# EAGLE library part TMMH-109-01-G-DV-ES-A (library TMMH-109-01-G-DV-ES-A)
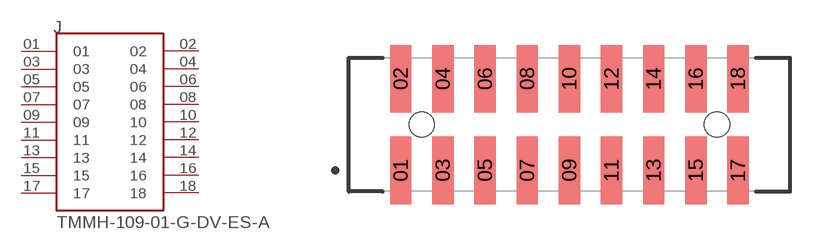
[diagram p0: symbol with the pads of SAMTEC_TMMH-109-01-G-DV-ES-A; footprint SAMTEC_TMMH-109-01-G-DV-ES-A]

Designator prefix J

## TMMH-109-01-G-DV-ES-A (MANUFACTURER: Samtec; PARTREV: R; STANDARD: Manufacturer Recommendations)  [SAMTEC_TMMH-109-01-G-DV-ES-A]
01  01  pas
02  02  pas
03  03  pas
04  04  pas
05  05  pas
06  06  pas
07  07  pas
08  08  pas
09  09  pas
10  10  pas
11  11  pas
12  12  pas
13  13  pas
14  14  pas
15  15  pas
16  16  pas
17  17  pas
18  18  pas

## Footprint SAMTEC_TMMH-109-01-G-DV-ES-A (pad centres in mm)
smd 1.016 x 3.21: 01 0,0; 02 0,4.354; 03 2,0; 04 2,4.354; 05 4,0; 06 4,4.354; 07 6,0; 08 6,4.354; 09 8,0; 10 8,4.354; 11 10,0; 12 10,4.354; 13 12,0; 14 12,4.354; 15 14,0; 16 14,4.354; 17 16,0; 18 16,4.354
hole 1.19 at 1,2.177
hole 1.19 at 15,2.177